# Altium schematic symbol library Max30102_40k.SchLib: 1 symbol
Pins are listed as number, name and electrical type; pins without a type are passive.

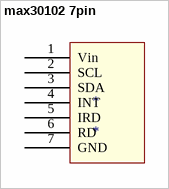
[diagram p0: symbol max30102 7pin]

## max30102 7pin
designator *
mã hàng: G4VK; Tên: Cảm biến nhịp tim và oxy trong máu MAX30102; Giá tiền: 36.000₫
footprint max30102 7pin
pins: 1 Vin, 2 SCL, 3 SDA, 4 INT, 5 IRD, 6 RD, 7 GND